# Altium schematic symbol library Header 2.54 x 11.SchLib: 1 symbol
Pins are listed as number, name and electrical type; pins without a type are passive.

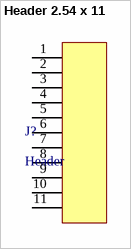
[diagram p0: symbol Header 2.54 x 11]

## Header 2.54 x 11
designator J?, comment Header
Cam
footprint Header 2.54 x 11
pins: 1, 2 11, 3 11, 4 11, 5 11, 6 11, 7 11, 8 11, 9 11, 10 11, 11